# Altium schematic symbol library IN-15B.SCHLIB: 2 symbols
Pins are listed as number, name and electrical type; pins without a type are passive.

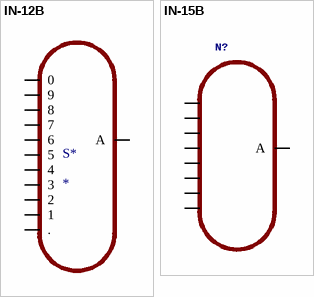
[diagram p0: symbols IN-12B to IN-15B]

## IN-12B
designator S*
footprint IN-12
pins: 0 2, 1 A, 2 0, 3 9, 4 8, 5 7, 6, 7 5, 8 4, 9 3, A 1, LHDP .

## IN-15B
designator N?, comment IN-15B: medium symbol topview nixie tube  (value not drawn)
footprint IN-12
pins: 0 P$1, 1 P$6, 2 P$8, 4 P$5, 5 P$4, 6 P$7, 7 P$3, 9 P$2, A